# Altium schematic symbol library LM298_Schematic_Library.SchLib: 14 symbols
Pins are listed as number, name and electrical type; pins without a type are passive.

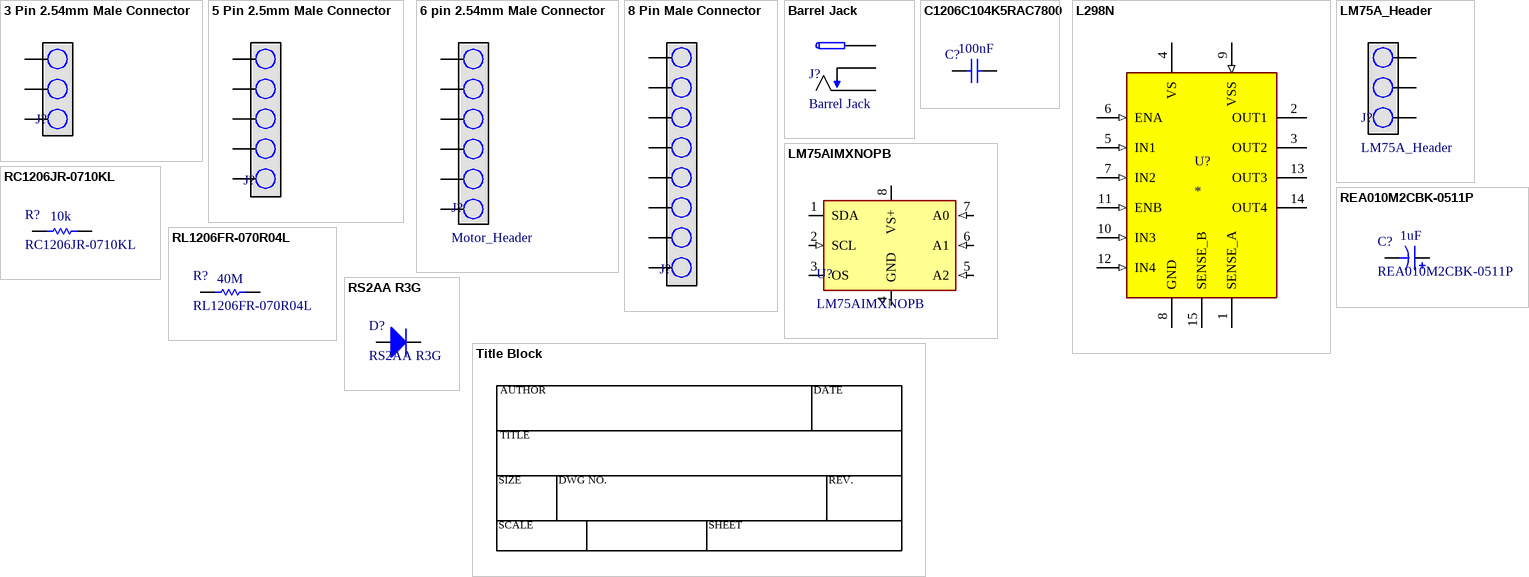
[diagram p0: symbols 3 Pin 2.54mm Male Connector to Title Block]

## 3 Pin 2.54mm Male Connector
designator J?  (value not drawn)
footprint 3 Pin THT Header (Pin Header, pitch 2.54 mm, THT, Vertical, single row, 3p)
pins: 1, 2, 3

## 5 Pin 2.5mm Male Connector
designator J?  (value not drawn)
pins: 1, 2, 3, 4, 5

## 6 pin 2.54mm Male Connector
designator J?, comment Motor_Header
footprint 6 Pin THT Header (Pin Header, pitch 2.54 mm, THT, Vertical, single row, 6p)
pins: 1, 2, 3, 4, 5, 6

## 8 Pin Male Connector
designator J?
footprint 8 Pin THT Header (Pin Header, pitch 2.54 mm, THT, Vertical, single row, 8p)
pins: 1, 2, 3, 4, 5, 6, 7, 8

## Barrel Jack
designator J?
footprint GRAVITECH_CON-SOCJ-2155
pins: 1 POS, 2 NEG, 3 SW

## C1206C104K5RAC7800
designator C?  Capacitance: 100nF  (hidden comment: C1206C104K5RAC7800)
0.1 µF ±10% 50V Ceramic Capacitor X7R 1206 (3216 Metric)
footprint CAP_1206
pins: 1, 2

## L298N
designator U?
Dual Full Bridge Motor Driver 15-Pin(15+Tab) MULTIWATT V Tube; MP: L298N; Availability: Unavailable; Package: None; Value: *; Price: None
footprint L298N
pins: 1 SENSE_A, 2 OUT1, 3 OUT2, 4 VS (power), 5 IN1 (in), 6 ENA (in), 7 IN2 (in), 8 GND (power), 9 VSS (in), 10 IN3 (in), 11 ENB (in), 12 IN4 (in), 13 OUT3 (oc), 14 OUT4, 15 SENSE_B

## LM75A_Header
designator J?
2.54mm Male Header Pins
pins: 1, 2, 3

## LM75AIMXNOPB
designator U?
No Description Available; Mfr_Name: Texas Instruments; RefDes: RefDes; Type: Type
footprint SOIC8
pins: 1 SDA (io), 2 SCL (in), 3 OS, 4 GND (power), 5 A2 (in), 6 A1 (in), 7 A0 (in), 8 VS+ (power)

## RC1206JR-0710KL
designator R?  value 10k
Res Thick Film 1206 10K Ohm 5% 1/4W |100ppm/|C SMD Paper T/R; Manufacturer: Yageo; Temperature Coefficient: 100ppm/°C; Power Rating: 250mW; Voltage Rating: 200V; Supplier: Future Electronics; Supplier Part Number: 4750733; Manufacturer Part Number: RC1206JR-0710KL; RoHS: Yes; Category: Chip SMD Resistors; Stock: 4695000; Pricing: 5000=0.0032, 20000=0.003, 75000=0.0029, 150000=0.0028, 375000=0.0027 (USD); Case/Package: 1206; Case Code (Imperial): 1206; Case Code (Metric): 3216; Min Operating Temperature: -55°C; Max Operating Temperature: 155°C; Resistor Type: Thick Film; Tolerance: 5%; Packaging: Cut Tape; Package Quantity: 1; Termination: SMD/SMT; Number of Terminations: 2; Max Power Dissipation: 250mW; Series: RC1206; Resistance Tolerance: 5%; Length: 0.122inch; Width: 0.063inch; Height: 0.026inch; Lead Free: Lead Free; Reach SVHC Compliant: Unknown; RoHS Compliant: Yes; ComponentLink1URL: https://datasheet.ciiva.com/29154/402664-da-01-en-smd-widerstand-chip1206-10-kohm-29154546.pdf?src-supplier=Conrad; ComponentLink1Description: https://datasheet.ciiva.com/29154/402664-da-01-en-smd-widerstand-chip1206-10-kohm-29154546.pdf?src-supplier=Conrad; ComponentLink2URL: https://datasheet.ciiva.com/2458/pyu-rc1206-51-rohs-l-4-2458635.pdf?src-supplier=Digikey; ComponentLink2Description: https://datasheet.ciiva.com/2458/pyu-rc1206-51-rohs-l-4-2458635.pdf?src-supplier=Digikey; ComponentLink3URL: https://datasheet.ciiva.com/2458/pyu-rc1206-51-rohs-l-4-2458636.pdf?src-supplier=Digikey; ComponentLink3Description: https://datasheet.ciiva.com/2458/pyu-rc1206-51-rohs-l-4-2458636.pdf?src-supplier=Digikey; ComponentLink4URL: https://datasheet.ciiva.com/2458/pyu-rc1206-51-rohs-l-4-2458637.pdf?src-supplier=Digikey; ComponentLink4Description: https://datasheet.ciiva.com/2458/pyu-rc1206-51-rohs-l-4-2458637.pdf?src-supplier=Digikey; ComponentLink5URL: https://datasheet.ciiva.com/7983/444357-7983813.pdf?src-supplier=Element14; ComponentLink5Description: https://datasheet.ciiva.com/7983/444357-7983813.pdf?src-supplier=Element14
footprint RES_1206
pins: 1, 2

## REA010M2CBK-0511P
designator C?  value 1uF
Radial Leaded 160V 1.0uF 20% 5x11mm; Manufacturer: Lelon; Dielectric Material: Aluminium; Polarity: Polarized; Ripple Current: 20mA; Supplier: Mouser; Supplier Part Number: 140-REA1R0M2CBK0511P; Manufacturer Part Number: REA010M2CBK-0511P; RoHS: Yes; Category: Aluminum Electrolytic Capacitors; Stock: 18847; Pricing: 1=0.1, 10=0.057, 50=0.057, 100=0.054, 500=0.047, 1000=0.041, 2000=0.034, 5000=0.028, 10000=0.023, 25000=0.02 (USD); Pins: 2; Min Operating Temperature: -40°C; Max Operating Temperature: 85°C; Capacitor Type: Aluminium; Tolerance  (fill in as +-): 20%; Package Style: RadialMeter; Packaging: Bulk; Tolerance (fill in as +-): 20%; Rated DC Voltage (URdc): 160V; Series: REA; Diameter: 5mm; Length: 11mm; Terminal Pitch: 2mm; Reach SVHC Compliant: Yes; RoHS Compliant: Yes; ComponentLink1URL: https://datasheet.ciiva.com:443/pdfs/VipMasterIC/IC/LELO/LELOS00009/LELOS00009-1.pdf?src-supplier=IHS+Markit; ComponentLink1Description: https://datasheet.ciiva.com:443/pdfs/VipMasterIC/IC/LELO/LELOS00009/LELOS00009-1.pdf?src-supplier=IHS+Markit; ComponentLink2URL: http://www.mouser.com/ds/2/231/lelon_REA[1]-341020.pdf?src-supplier=Mouser; ComponentLink2Description: http://www.mouser.com/ds/2/231/lelon_REA[1]-341020.pdf?src-supplier=Mouser
footprint CAP_TH_Radial_0511
pins: 1 -, 2 +

## RL1206FR-070R04L
designator R?  value 40M
SMD Current Sense Resistor, 40 Milliohms, ± 1%, 250 mW, 1206 [3216 Metric], Thick Film; Manufacturer: Yageo; Power Rating: 250mW; Temperature Coefficient: 1200ppm/°C; Supplier: Digikey; Supplier Part Number: 311-.04LWCT-ND; Manufacturer Part Number: RL1206FR-070R04L; RoHS: Yes; Category: Chip SMD Resistors; Stock: 18033; Pricing: 1=0.52, 10=0.166, 50=0.1484, 100=0.1306, 1000=0.12757 (USD); Case/Package: 1206; Case Code (Imperial): 1206; Case Code (Metric): 3216; Weight: 0.000571oz; Min Operating Temperature: -55°C; Max Operating Temperature: 155°C; Tolerance: 1%; Packaging: Tape and Reel; Termination: SMD/SMT; Resistor Type: Thick Film; Package Quantity: 5000; Features: Moisture Resistant,Automotive AEC-Q200; Series: RL; Max Power Dissipation: 250mW; Number of Terminations: 2; Technology: THICK FILM; Length: 3.1mm; Width: 1.6mm; Height: 0.55mm; Ratings: AEC-Q200; Lead Free: Lead Free; RoHS Compliant: Yes; ComponentLink1URL: https://datasheet.ciiva.com/15328/pyu-rl-521-rohs-l-5-15328860.pdf?src-supplier=Mouser; ComponentLink1Description: https://datasheet.ciiva.com/15328/pyu-rl-521-rohs-l-5-15328860.pdf?src-supplier=Mouser
footprint RES_1206
pins: 1, 2

## RS2AA R3G
designator D?
Diode Fast Recovery Rectifier 50V 1.5A 2-Pin DO-214AC Plastic T/R; Manufacturer: Taiwan Semiconductor; Supplier: Digikey; Supplier Part Number: RS2AAR3GCT-ND; Manufacturer Part Number: RS2AA R3G; RoHS: Yes; Stock: 3391; Pricing: 1=0.55, 10=0.365, 100=0.2482, 500=0.1944 (USD); RoHS Compliant: Yes; ComponentLink1URL: https://www.taiwansemi.com/products/datasheet/RS2AA%20SERIES_G14.pdf?src-supplier=Digikey; ComponentLink1Description: https://www.taiwansemi.com/products/datasheet/RS2AA%20SERIES_G14.pdf?src-supplier=Digikey
footprint RS2AA
pins: 1 K, 2 A

## Title Block
designator *  (value not drawn)  (graphical)
text: AUTHOR; DATE; TITLE; SIZE; DWG NO.; REV.; SCALE; SHEET